# Altium footprint library Wurth_Elektronik_Passive_rev16a.PCBLIB: 810 footprints (part 15 of 51)
Each footprint in its own frame and in the unit in brackets; x right, y up, seen from the top. Pads: shape width x height; smd on the part's side, far side on the other; paste and mask are expansions set on the pad; w line width, h text height; cw(c..) or ccw(c..) is an arc to the next point about the centre after c.
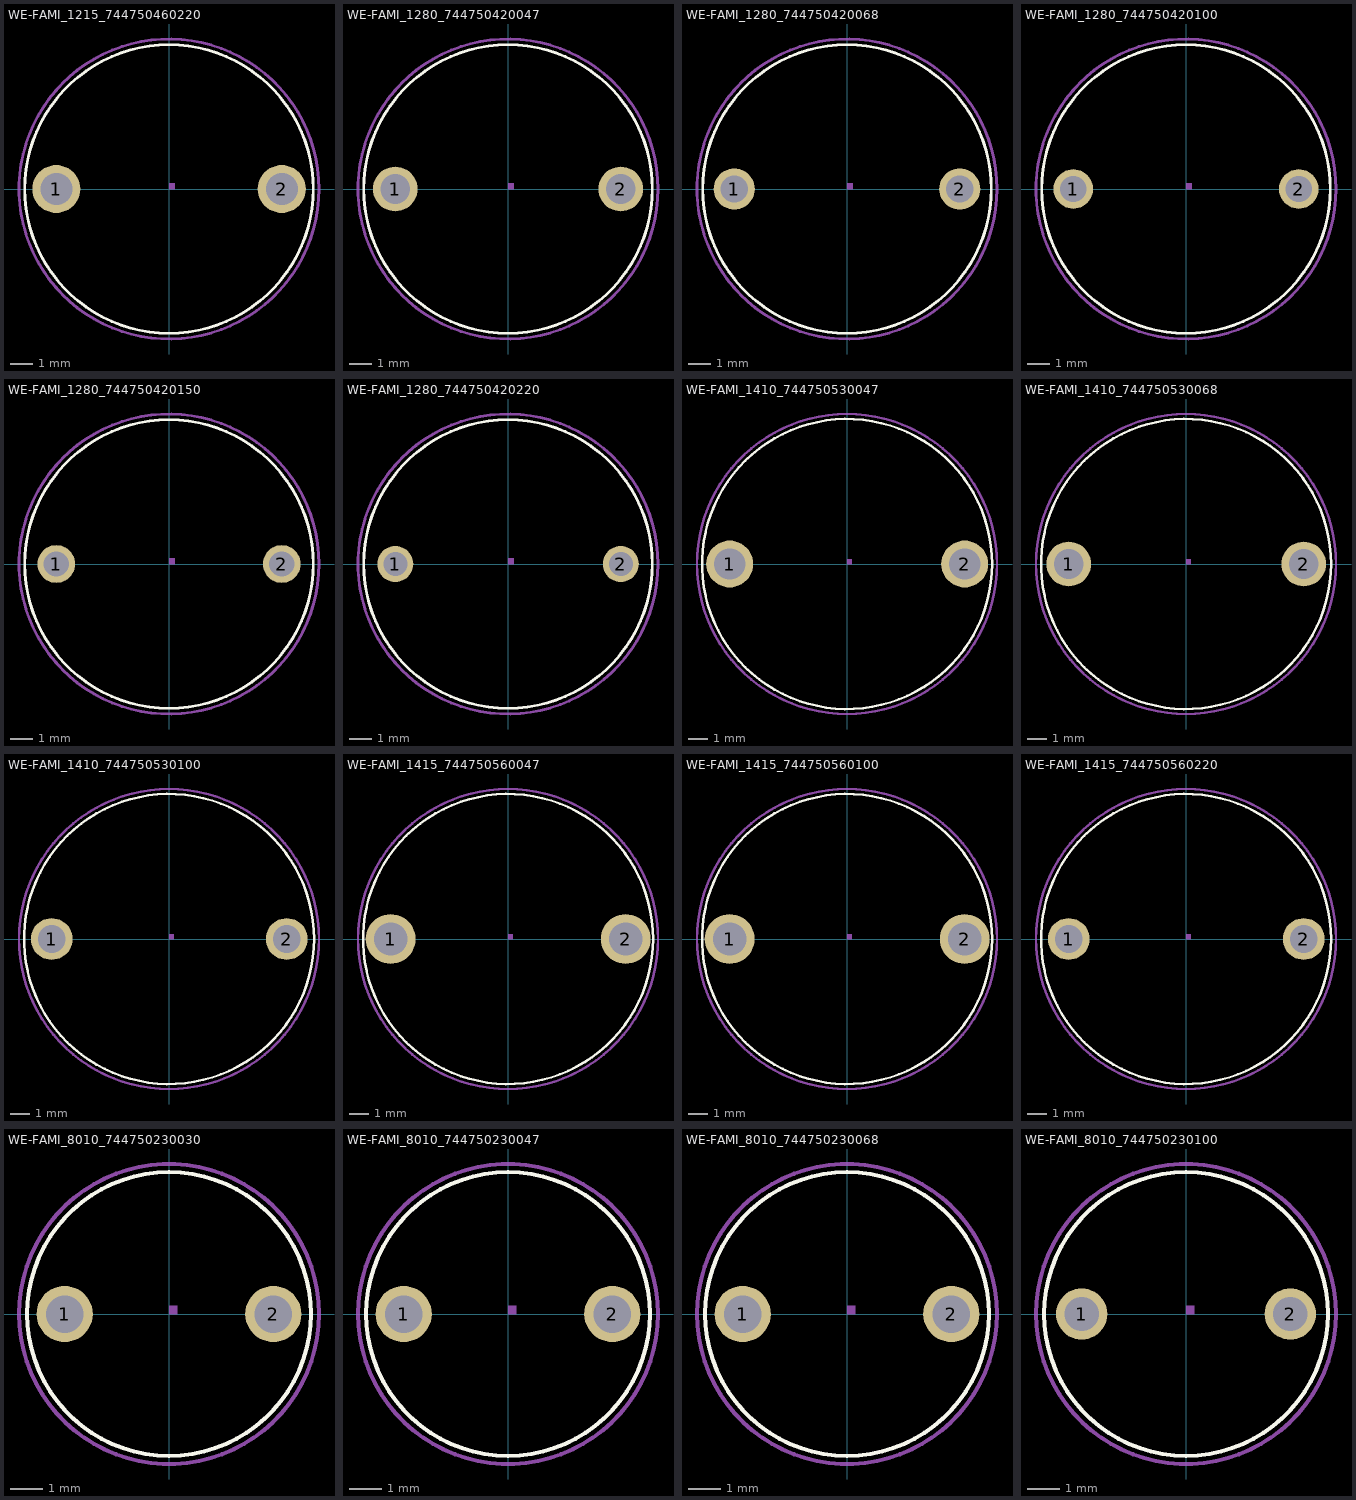
[diagram p14: the footprints below, top view; thin cyan lines are the x and y axes]

## WE-FAMI_1215_744750460220 [mil]
pads (2):
  round 84 hole 56: 1(-196.85,0) 2(197,0)
Top Overlay:
  circle w5: c0,0 r252
Mechanical 2:
  text ">NAME" at -150,350 h77.5
Mechanical 4:
  text ">VALUE" at -150,-400 h77.5
Mechanical 10:
  region: 0,0 10,0 10,10 0,10
Mechanical 27:
  circle w5: c0,0 r262

## WE-FAMI_1280_744750420047 [mil]
pads (2):
  round 78 hole 52: 1(-196.85,0) 2(197,0)
Top Overlay:
  circle w5: c0,0 r252
Mechanical 2:
  text ">NAME" at -150,350 h77.5
Mechanical 4:
  text ">VALUE" at -150,-400 h77.5
Mechanical 10:
  region: 0,0 10,0 10,10 0,10
Mechanical 27:
  circle w5: c0,0 r262

## WE-FAMI_1280_744750420068 [mil]
pads (2):
  round 72 hole 48: 1(-196.85,0) 2(197,0)
Top Overlay:
  circle w5: c0,0 r252
Mechanical 2:
  text ">NAME" at -150,350 h77.5
Mechanical 4:
  text ">VALUE" at -150,-400 h77.5
Mechanical 10:
  region: 0,0 10,0 10,10 0,10
Mechanical 27:
  circle w5: c0,0 r262

## WE-FAMI_1280_744750420100 [mil]
pads (2):
  round 69 hole 46: 1(-196.85,0) 2(197,0)
Top Overlay:
  circle w5: c0,0 r252
Mechanical 2:
  text ">NAME" at -150,350 h77.5
Mechanical 4:
  text ">VALUE" at -150,-400 h77.5
Mechanical 10:
  region: 0,0 10,0 10,10 0,10
Mechanical 27:
  circle w5: c0,0 r262

## WE-FAMI_1280_744750420150 [mil]
pads (2):
  round 66 hole 44: 1(-196.85,0) 2(197,0)
Top Overlay:
  circle w5: c0,0 r252
Mechanical 2:
  text ">NAME" at -150,350 h77.5
Mechanical 4:
  text ">VALUE" at -150,-400 h77.5
Mechanical 10:
  region: 0,0 10,0 10,10 0,10
Mechanical 27:
  circle w5: c0,0 r262

## WE-FAMI_1280_744750420220 [mil]
pads (2):
  round 63 hole 42: 1(-196.85,0) 2(197,0)
Top Overlay:
  circle w5: c0,0 r252
Mechanical 2:
  text ">NAME" at -150,350 h77.5
Mechanical 4:
  text ">VALUE" at -150,-400 h77.5
Mechanical 10:
  region: 0,0 10,0 10,10 0,10
Mechanical 27:
  circle w5: c0,0 r262

## WE-FAMI_1410_744750530047 [mil]
pads (2):
  round 94.5 hole 63: 1(-236.22,0) 2(237,0)
Top Overlay:
  circle w5: c0,0 r292
Mechanical 2:
  text ">NAME" at -150,350 h77.5
Mechanical 4:
  text ">VALUE" at -150,-400 h77.5
Mechanical 10:
  region: 0,0 10,0 10,10 0,10
Mechanical 27:
  circle w5: c0,0 r302

## WE-FAMI_1410_744750530068 [mil]
pads (2):
  round 90 hole 60: 1(-236.22,0) 2(237,0)
Top Overlay:
  circle w5: c0,0 r292
Mechanical 2:
  text ">NAME" at -150,352 h77.5
Mechanical 4:
  text ">VALUE" at -150,-398.35 h77.5
Mechanical 10:
  region: 0,0 10,0 10,10 0,10
Mechanical 27:
  circle w5: c0,0 r302

## WE-FAMI_1410_744750530100 [mil]
pads (2):
  round 84 hole 56: 1(-236.22,0) 2(237,0)
Top Overlay:
  circle w5: c0,0 r292
Mechanical 2:
  text ">NAME" at -150,352 h77.5
Mechanical 4:
  text ">VALUE" at -150,-398.35 h77.5
Mechanical 10:
  region: 0,0 10,0 10,10 0,10
Mechanical 27:
  circle w5: c0,0 r302

## WE-FAMI_1415_744750560047 [mil]
pads (2):
  round 100.5 hole 67: 1(-236.22,0) 2(237,0)
Top Overlay:
  circle w5: c0,0 r292
Mechanical 2:
  text ">NAME" at -150,352 h77.5
Mechanical 4:
  text ">VALUE" at -150,-398.35 h77.5
Mechanical 10:
  region: 0,0 10,0 10,10 0,10
Mechanical 27:
  circle w5: c0,0 r302

## WE-FAMI_1415_744750560100 [mil]
pads (2):
  round 100.5 hole 67: 1(-236.22,0) 2(237,0)
Top Overlay:
  circle w5: c0,0 r292
Mechanical 2:
  text ">NAME" at -150,352 h77.5
Mechanical 4:
  text ">VALUE" at -150,-398.35 h77.5
Mechanical 10:
  region: 0,0 10,0 10,10 0,10
Mechanical 27:
  circle w5: c0,0 r302

## WE-FAMI_1415_744750560220 [mil]
pads (2):
  round 84 hole 56: 1(-236.22,0) 2(237,0)
Top Overlay:
  circle w5: c0,0 r292
Mechanical 2:
  text ">NAME" at -150,352 h77.5
Mechanical 4:
  text ">VALUE" at -150,-398.35 h77.5
Mechanical 10:
  region: 0,0 10,0 10,10 0,10
Mechanical 27:
  circle w5: c0,0 r302

## WE-FAMI_8010_744750230030 [mil]
pads (2):
  round 69 hole 46: 1(-127.95,0) 2(128,0)
Top Overlay:
  circle w5: c0,0 r174
Mechanical 2:
  text ">NAME" at -150,250 h77.5
Mechanical 4:
  text ">VALUE" at -150,-300 h77.5
Mechanical 10:
  region: 0,0 10,0 10,10 0,10
Mechanical 27:
  circle w5: c0,0 r184

## WE-FAMI_8010_744750230047 [mil]
pads (2):
  round 69 hole 46: 1(-127.95,0) 2(128,0)
Top Overlay:
  circle w5: c0,0 r174
Mechanical 2:
  text ">NAME" at -150,250 h77.5
Mechanical 4:
  text ">VALUE" at -150,-300 h77.5
Mechanical 10:
  region: 0,0 10,0 10,10 0,10
Mechanical 27:
  circle w5: c0,0 r184

## WE-FAMI_8010_744750230068 [mil]
pads (2):
  round 69 hole 46: 1(-127.95,0) 2(128,0)
Top Overlay:
  circle w5: c0,0 r174
Mechanical 2:
  text ">NAME" at -150,250 h77.5
Mechanical 4:
  text ">VALUE" at -150,-300 h77.5
Mechanical 10:
  region: 0,0 10,0 10,10 0,10
Mechanical 27:
  circle w5: c0,0 r184

## WE-FAMI_8010_744750230100 [mil]
pads (2):
  round 63 hole 42: 1(-127.95,0) 2(128,0)
Top Overlay:
  circle w5: c0,0 r174
Mechanical 2:
  text ">NAME" at -150,250 h77.5
Mechanical 4:
  text ">VALUE" at -150,-300 h77.5
Mechanical 10:
  region: 0,0 10,0 10,10 0,10
Mechanical 27:
  circle w5: c0,0 r184